# EAGLE library part TW-12-03-X-D (library Traficon)
SAMTEC TW-10-03-X-D
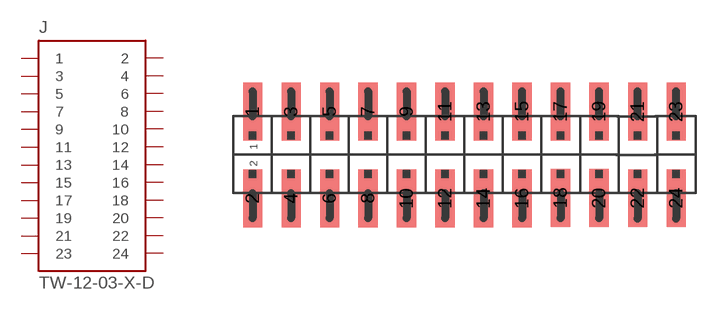
[diagram p191: symbol with the pads of 2MMHEAD2X12; footprint 2MMHEAD2X12]

Designator prefix J

## TW-12-03-X-D  [2MMHEAD2X12]
1  1  pas
2  2  pas
3  3  pas
4  4  pas
5  5  pas
6  6  pas
7  7  pas
8  8  pas
9  9  pas
10  10  pas
11  11  pas
12  12  pas
13  13  pas
14  14  pas
15  15  pas
16  16  pas
17  17
18  18
19  19
20  20
21  21
22  22
23  23
24  24

## Footprint 2MMHEAD2X12 (pad centres in mm)
smd 1 x 3: 1 -10.962,2.295; 2 -10.962,-2.225; 3 -8.962,2.295; 4 -8.962,-2.225; 5 -6.962,2.295; 6 -6.962,-2.225; 7 -4.962,2.295; 8 -4.962,-2.225; 9 -2.962,2.295; 10 -2.962,-2.225; 11 -0.962,2.295; 12 -0.962,-2.225; 13 1.038,2.295; 14 1.038,-2.225; 15 3.038,2.295; 16 3.038,-2.225; 17 5.038,2.295; 18 5.038,-2.205; 19 7.038,2.295; 20 7.038,-2.205; 21 9.044,2.293; 22 9.044,-2.207; 23 11.044,2.293; 24 11.044,-2.207